# Altium schematic symbol library LM5165DRCR.Schlib: 1 symbol
Pins are listed as number, name and electrical type; pins without a type are passive.

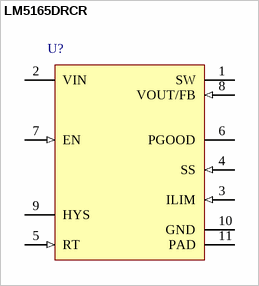
[diagram p0: symbol LM5165DRCR]

## LM5165DRCR
designator U?
pins: 1 SW (power), 2 VIN (power), 3 ILIM (in), 4 SS (in), 5 RT (in), 6 PGOOD (oc), 7 EN (in), 8 VOUT/FB (in), 9 HYS (oc), 10 GND (power), 11 PAD (power)